# EAGLE library part AD5933 (library iBionics)
AD5933
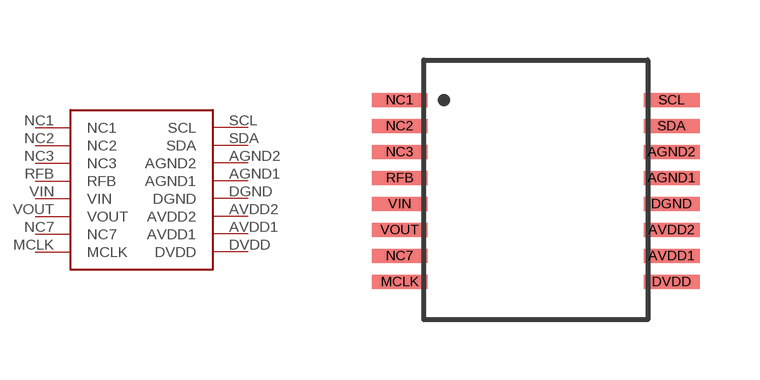
[diagram p31: symbol with the pads of AD5933; footprint AD5933]

Designator prefix -

## AD5933  [AD5933]
AGND1  AGND1  pwr
AGND2  AGND2  pwr
AVDD1  AVDD1  pwr
AVDD2  AVDD2  pwr
DGND  DGND  pwr
DVDD  DVDD  pwr
MCLK  MCLK
NC1  NC1  nc
NC2  NC2  nc
NC3  NC3  nc
NC7  NC7  nc
RFB  RFB
SCL  SCL
SDA  SDA
VIN  VIN  in
VOUT  VOUT  out

## Footprint AD5933 (pad centres in mm)
AD5933
smd 1.4 x 0.35: AGND1 3.45,0.25; AGND2 3.45,0.9; AVDD1 3.45,-1.7; AVDD2 3.45,-1.05; DGND 3.45,-0.4; DVDD 3.45,-2.35; MCLK -3.35,-2.35; NC1 -3.35,2.2; NC2 -3.35,1.55; NC3 -3.35,0.9; NC7 -3.35,-1.7; RFB -3.35,0.25; SCL 3.45,2.2; SDA 3.45,1.55; VIN -3.35,-0.4; VOUT -3.35,-1.05